# EAGLE library part 428427320911 (library Switches_rev16a)
WS-RAT, 10*10mm Rotary Switch, right angle type, THT, 10 position, 2,54mm, 6 pins, round Arrow type, ivory, complement code
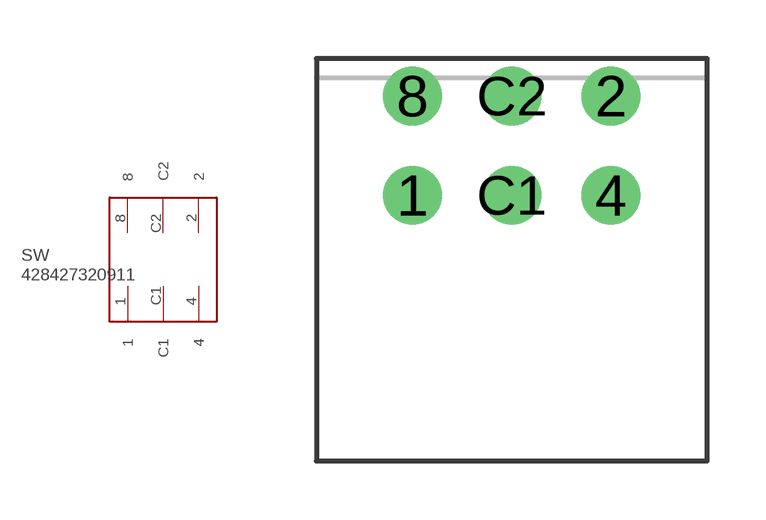
[diagram p118: symbol with the pads of 428427320911; footprint 428427320911]

Designator prefix SW

## 428427320911  [428427320911]
1  1
2  2
4  4
8  8
C1  C1
C2  C2

## Footprint 428427320911 (pad centres in mm)
WS-RAT, 10*10mm Rotary Switch, right angle type, THT, 10 position, 2,54mm, 6 pins, round Arrow type, ivory, complement code
drill 1: 1 -2.54,-1.27; 2 2.54,1.27; 4 2.54,-1.27; 8 -2.54,1.27; C1 0,-1.27; C2 0,1.27